# Altium footprint library EncoderDebouncerComponents.PcbLib: 5 footprints
Each footprint in its own frame and in the unit in brackets; x right, y up, seen from the top. Pads: shape width x height; smd on the part's side, far side on the other; paste and mask are expansions set on the pad; w line width, h text height; cw(c..) or ccw(c..) is an arc to the next point about the centre after c.
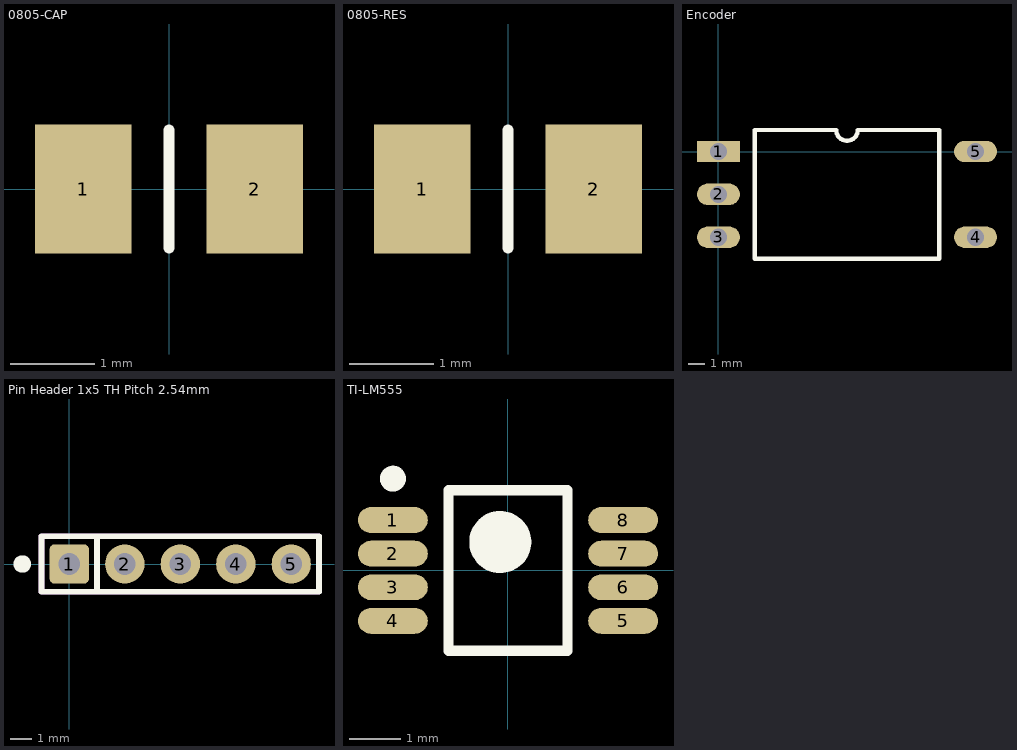
[diagram p0: the footprints below, top view; thin cyan lines are the x and y axes]

## 0805-CAP [mil]
pads (2):
  rect 45x60 smd: 1(-40,0) 2(40,0)
Top Overlay:
  lines w5: 0,-27.56 0,27.56
3D body: height 27.56, standoff 0, extent 23.62,-23.62 39.37,23.62
3D body: height 27.56, standoff 0, extent -39.37,-23.62 -23.62,23.62
3D body: height 27.56, standoff 0, extent -23.62,-23.62 23.62,23.62

## 0805-RES [mil]
pads (2):
  rect 45x60 smd: 1(-40,0) 2(40,0)
Top Overlay:
  lines w5: 0,-27.56 0,27.56
3D body: height 17.72, standoff 0, extent -27.56,-23.62 27.56,23.62
3D body: height 17.72, standoff 0, extent -39.37,-23.62 -27.56,23.62
3D body: height 17.72, standoff 0, extent 27.56,-23.62 39.37,23.62

## Encoder [mil]
pads (5):
  rect 100x50 hole 40: 1(0,0)
  oval 100x50 hole 40: 2(0,-100) 3(0,-200) 4(600,-200) 5(600,0)
Top Overlay:
  lines w10: 85,-250 85,50 275,50 ccw(c300,50) 325,50 515,50 515,-250 85,-250
3D body: height 10, standoff 0, extent 288,-93.5 288,-93.5
3D body "RotaryEncoder.STEP": height 1017.83, standoff -128.63, extent -5.9,-331.11 608.27,129.52

## Pin Header 1x5 TH Pitch 2.54mm [mm] "PinHeader 1x5 TH Pitch 2.54mm"
height 9.5
pads (5):
  rrect25% 1.8x1.8 hole 1: 1(0,0)
  round 1.8 hole 1: 2(2.54,0) 3(5.08,0) 4(7.62,0) 5(10.16,0)
Top Overlay:
  circle w0.5: c-2.15,0 r0.15
  lines w0.254: 1.27,-1.27 1.27,1.27 -1.27,1.27 ; -1.27,1.27 11.43,1.27 11.43,-1.27 -1.27,-1.27 -1.27,1.27
Mechanical 3:
  lines w0.254: 1.27,-1.27 1.27,1.27 -1.27,1.27 ; -1.27,1.27 11.43,1.27 11.43,-1.27 -1.27,-1.27 -1.27,1.27
3D body "Pin Header 1x5 TH Pitch 2.54mm.stp": height 9.5, standoff -3.2, extent -1.27,-1.27 11.43,1.27

## TI-LM555 [mm]
height 1.1
pads (8):
  oval 1.35x0.5 smd: 1(-2.225,0.975) 2(-2.225,0.325) 3(-2.225,-0.325) 4(-2.225,-0.975) 5(2.225,-0.975) 6(2.225,-0.325) 7(2.225,0.325) 8(2.225,0.975)
Top Overlay:
  circle w0.25: c-2.225,1.775 r0.125
  circle w0.6: c-0.15,0.55 r0.3
  lines w0.2: -1.15,-1.55 -1.15,1.55 1.15,1.55 1.15,-1.55 -1.15,-1.55
3D body "TI-LM555-3D.step": height 1.1, standoff 0, extent -2.45,-1.55 2.45,1.55